# EAGLE library part NRFHEAD (library talkingdrums)
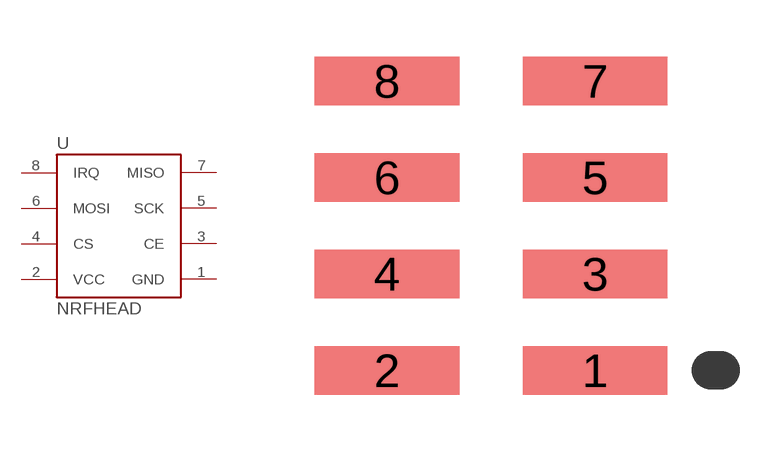
[diagram p0: symbol with the pads of 2.54MM; footprint 2.54MM]

Designator prefix -

## NRFHEADSMD  [2.54MM]
1  GND
2  VCC
3  CE
4  CS
5  SCK
6  MOSI
7  MISO
8  IRQ

## Footprint 2.54MM (pad centres in mm)
smd 3.81 x 1.27: 1 0,0; 2 -5.486,0; 3 0,2.54; 4 -5.486,2.54; 5 0,5.08; 6 -5.486,5.08; 7 0,7.62; 8 -5.486,7.62